# Altium footprint library LTM8074IY_PBF.PcbLib: 2 footprints
Each footprint in its own frame and in the unit in brackets; x right, y up, seen from the top. Pads: shape width x height; smd on the part's side, far side on the other; paste and mask are expansions set on the pad; w line width, h text height; cw(c..) or ccw(c..) is an arc to the next point about the centre after c.
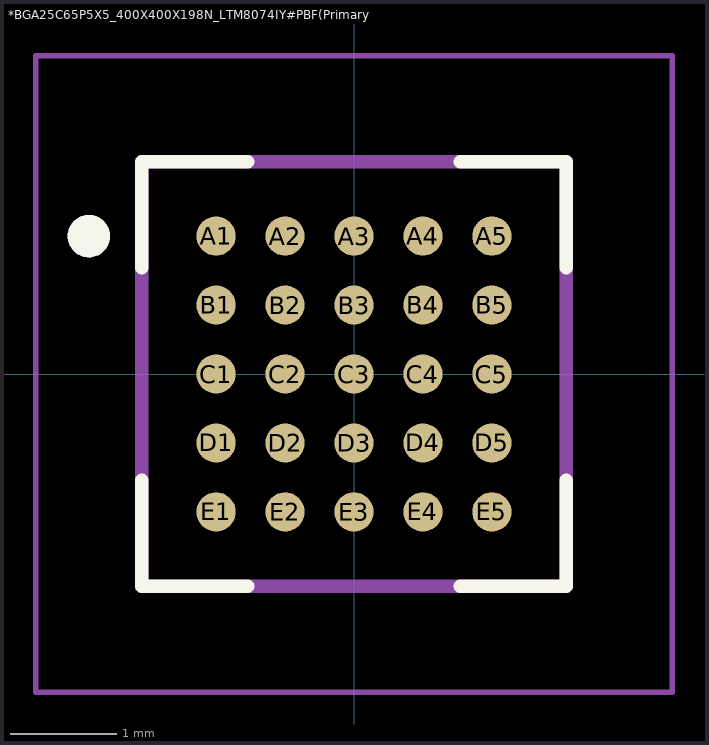
[diagram p0: the footprints below, top view; thin cyan lines are the x and y axes]

## *BGA25C65P5X5_400X400X198N_LTM8074IY#PBF(Primary) [mm]
pads (25):
  round 0.37 smd: A1(-1.3,1.3) A2(-0.65,1.3) A3(0,1.3) A4(0.65,1.3) A5(1.3,1.3) B1(-1.3,0.65) B2(-0.65,0.65) B3(0,0.65) B4(0.65,0.65) B5(1.3,0.65) C1(-1.3,0) C2(-0.65,0) C3(0,0) C4(0.65,0) C5(1.3,0) D1(-1.3,-0.65) D2(-0.65,-0.65) D3(0,-0.65) D4(0.65,-0.65) D5(1.3,-0.65) E1(-1.3,-1.3) E2(-0.65,-1.3) E3(0,-1.3) E4(0.65,-1.3) E5(1.3,-1.3)
Top Overlay:
  circle w0.2: c-2.5,1.3 r0.1
  lines w0.127: -2,-1 -2,-2 -1,-2 ; -2,1 -2,2 -1,2 ; 1,-2 2,-2 2,-1 ; 1,2 2,2 2,1
Mechanical 4:
  circle w0.2: c-2.5,1.3 r0.1
  circle w0.2: c-2.5,1.3 r0.1
  lines w0.127: -2,-2 -2,2 ; -2,-2 2,-2 ; -2,-2 -2,2 ; -2,-2 2,-2 ; -2,2 2,2 ; -2,2 2,2 ; 2,-2 2,2 ; 2,-2 2,2
Mechanical 16:
  lines w0.05: -3,-3 -3,3 3,3 3,-3 -3,-3

## PCBComponent_1 [mm]